# Altium schematic symbol library Kyocera6298-4.Schlib: 1 symbol
Pins are listed as number, name and electrical type; pins without a type are passive.

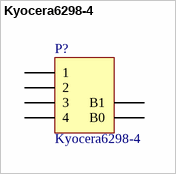
[diagram p0: symbol Kyocera6298-4]

## Kyocera6298-4
designator P?
pins: 1, 2, 3, 4, B0, B1